# Altium schematic symbol library RJ11.SchLib: 1 symbol
Pins are listed as number, name and electrical type; pins without a type are passive.

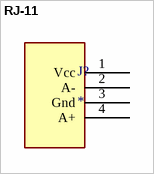
[diagram p0: symbol RJ-11]

## RJ-11
designator J?
footprint PCBComponent_1
pins: 1 Vcc, 2 A-, 3 Gnd, 4 A+